# Altium footprint library Seeed-OPL-Switch.PCBLIB: 31 footprints (part 2 of 2)
Each footprint in its own frame and in the unit in brackets; x right, y up, seen from the top. Pads: shape width x height; smd on the part's side, far side on the other; paste and mask are expansions set on the pad; w line width, h text height; cw(c..) or ccw(c..) is an arc to the next point about the centre after c.
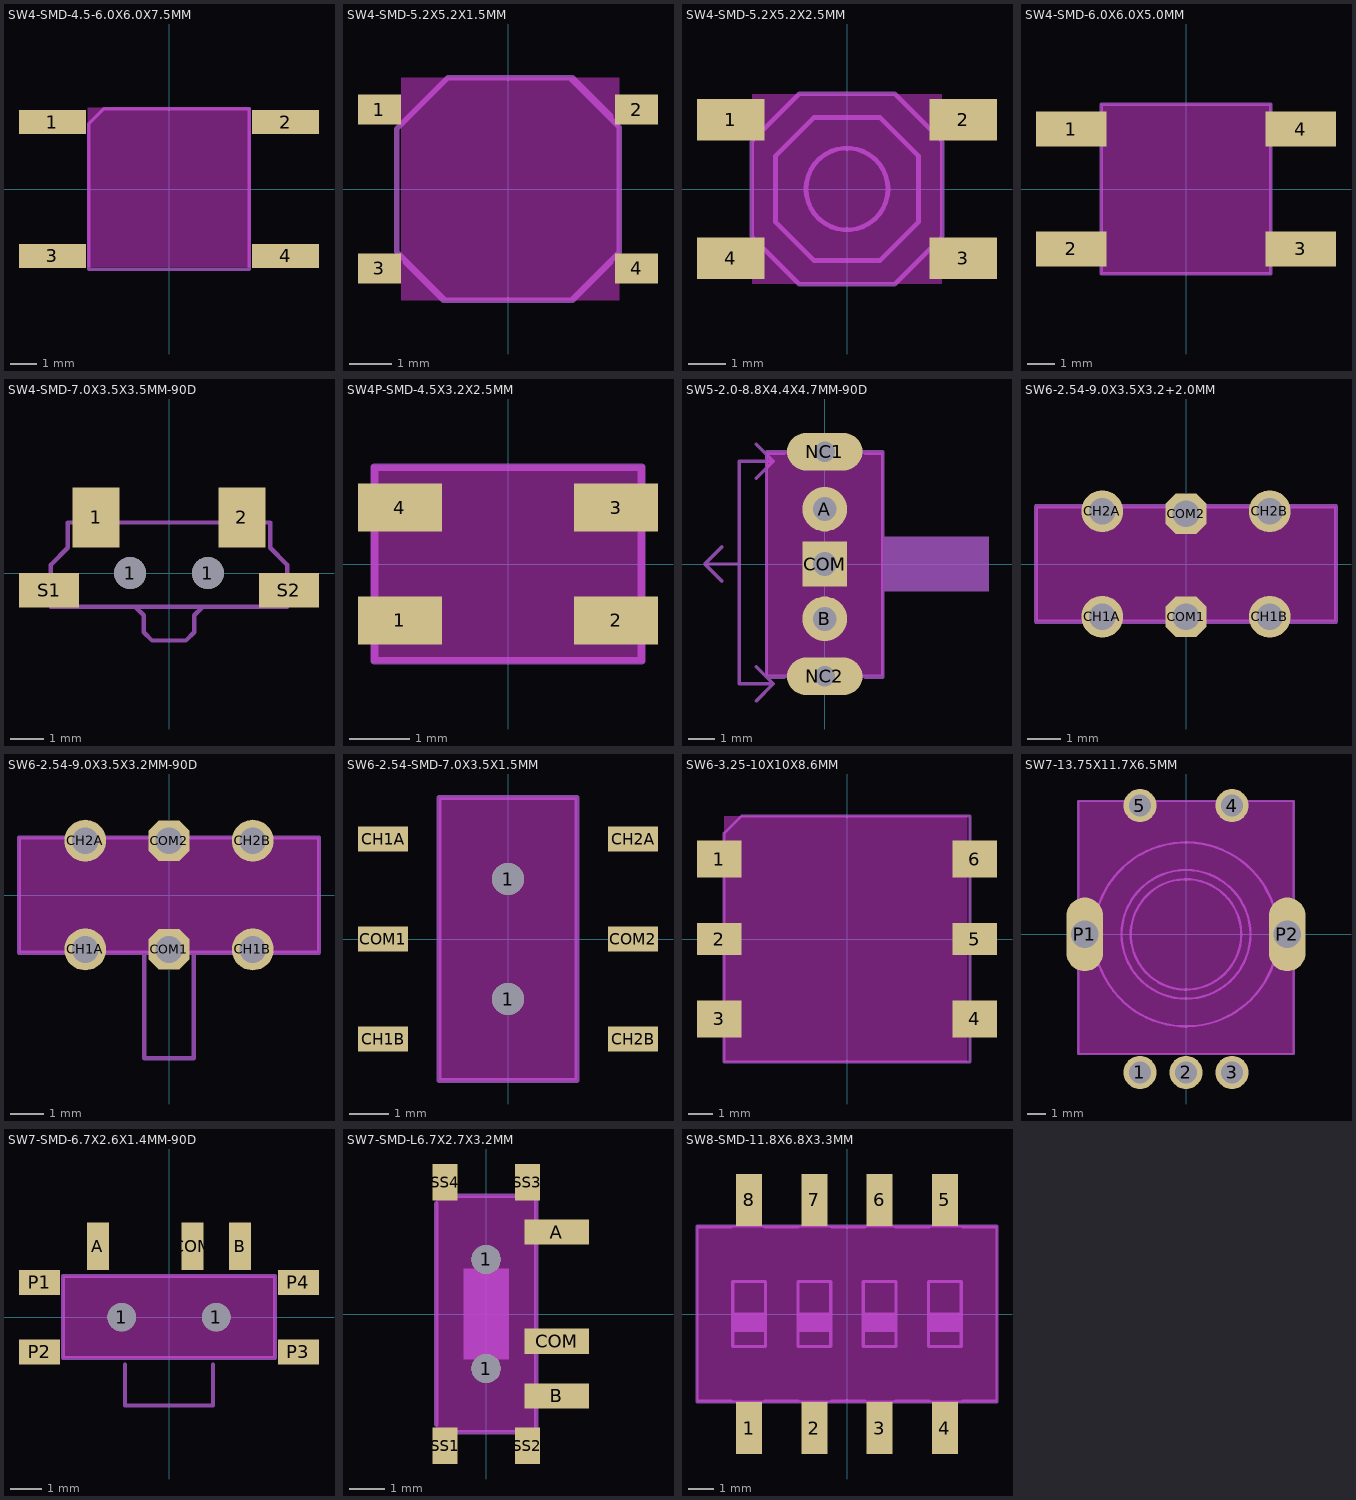
[diagram p1: the footprints below, top view; thin cyan lines are the x and y axes]

## SW4-SMD-4.5-6.0X6.0X7.5MM [mm]
pads (4):
  rect 2.5x0.9 smd: 1(-4.35,2.5) 2(4.35,2.5) 3(-4.35,-2.5) 4(4.35,-2.5)
Keep-Out Layer:
  rectangle: -3.048,-2.921 3.048,3.048
Mechanical 2:
  lines w0.127: -3,-3 -3,2.432 -2.432,3 3,3 3,-3 -3,-3

## SW4-SMD-5.2X5.2X1.5MM [mm]
pads (4):
  rect 1x0.7 smd: 1(-3,1.85) 2(3,1.85) 3(-3,-1.85) 4(3,-1.85)
Keep-Out Layer:
  rectangle: -2.5,-2.6 2.6,2.6
Mechanical 2:
  lines w0.127: -2.6,-1.46 -2.6,1.396 ; -2.4,-1.7 -1.5,-2.6 -1.46,-2.6 -1.1,-2.6 1.5,-2.6 2.4,-1.7 ; -2.4,1.6 -1.4,2.6 1.5,2.6 2.4,1.7 ; 2.6,-1.469 2.6,1.434
Mechanical 18:
  lines w0.127: -2.6,-1.46 -1.46,-2.6 ; -2.6,1.396 -1.396,2.6 ; 1.434,2.6 2.6,1.434 ; 1.469,-2.6 2.6,-1.469

## SW4-SMD-5.2X5.2X2.5MM [mil]
pads (4):
  rect 70.87x43.31 smd: 1(-122.05,72.83) 2(122.05,72.83) 3(122.05,-72.83) 4(-122.05,-72.83)
Keep-Out Layer:
  rectangle: -100,-100 100,100
Mechanical 2:
  circle w5: c0,0 r43.01
  lines w5: -100,-50 -50,-100 50,-100 100,-50 100,50 50,100 -50,100 -100,50 -100,-50 ; -75,-35 -35,-75 35,-75 75,-35 75,35 35,75 -35,75 -75,35 -75,-35

## SW4-SMD-6.0X6.0X5.0MM [mil]
pads (4):
  rect 100x50 smd: 1(-162.56,85) 2(-162.56,-85) 3(162.56,-85) 4(162.56,85)
Keep-Out Layer:
  rectangle: -120,-120 120,120
Mechanical 2:
  lines w5: -120,-120 120,-120 120,120 -120,120 -120,-120

## SW4-SMD-7.0X3.5X3.5MM-90D [mil]
pads (6):
  rect 55x70 smd: 1(-85,65) 2(85,65)
  round 37.4 hole 37.4: 1(-45.28,0) 1(45.28,0)
  rect 70x40 smd: S1(-140,-20) S2(140,-20)
Mechanical 2:
  lines w5: -137.8,3.94 -137.8,7.87 ; -137.8,9.84 -118.11,29.53 -118.11,59.06 ; -98.43,-39.37 -39.37,-39.37 ; -51.18,59.06 51.18,59.06 ; 98.43,-39.37 39.37,-39.37 ; 118.11,59.06 118.11,29.53 137.8,9.84 ; 137.8,3.94 137.8,7.87 ; -39.37,-39.37 39.37,-39.37 ; -39.37,-39.37 -29.53,-49.21 -29.53,-68.9 -19.69,-78.74 19.69,-78.74 29.53,-68.9 29.53,-49.21 39.37,-39.37
Mechanical 18:
  lines w5: -137.8,9.84 -137.8,-39.37 -39.37,-39.37 ; -118.11,59.06 118.11,59.06 ; 39.37,-39.37 137.8,-39.37 137.8,9.84

## SW4P-SMD-4.5X3.2X2.5MM [mil]
pads (4):
  rect 55.12x31.5 smd: 1(-70.87,-37.01) 2(70.87,-37.01) 3(70.87,37.01) 4(-70.87,37.01)
Keep-Out Layer:
  rectangle: -90,-65 90,65
Mechanical 2:
  lines w5: -87.6,-63.39 -87.6,63.39 87.6,63.39 87.6,-63.39 -87.6,-63.39

## SW5-2.0-8.8X4.4X4.7MM-90D [mil]
pads (5):
  round 65 hole 35: A(0,80) B(0,-80)
  rect 65x65 hole 35: COM(0,0)
  oval 110x55 hole 30: NC1(0,164) NC2(0,-164)
Keep-Out Layer:
  rectangle: -85,-163 85,163
Mechanical 2:
  rectangle: 85,-40 240,40
  lines w5: -85.04,-165.35 -59.06,-165.35 ; -85.04,161.42 -59.06,161.42 ; -85,-164 -85,164 ; 59.06,-165.35 85.04,-165.35 ; 59.06,161.42 85.04,161.42 ; 85,-164 85,164
Mechanical 13:
  lines w5: -150,-25 -175,0 ; -150,25 -175,0 ; -100,-200 -75,-175 ; -100,-150 -75,-175 ; -100,125 -75,150 ; -100,175 -75,150 ; -175,0 -125,0 ; -125,0 -125,150 -75,150 ; -125,0 -125,-175 -75,-175
  lines w35: -30,-164 30,-164 ; -30,164 30,164
Mechanical 18:
  lines w5: -85,-164 85,-164 ; -85,164 85,164

## SW6-2.54-9.0X3.5X3.2+2.0MM [mil]
pads (6):
  round 50 hole 32: CH1A(-100,-62.99) CH1B(100,-62.99) CH2A(-100,62.99) CH2B(100,62.99)
  oct 48.41x48.41 hole 32: COM1(0,-62.99) COM2(0,60)
Keep-Out Layer:
  region: 179.13,-68.9 179.13,68.9 -179.13,68.9 -179.13,-68.9
Mechanical 2:
  lines w5: -179.13,-68.9 -179.13,68.9 ; -177.17,-68.9 -129.92,-68.9 ; -177.17,68.9 -129.92,68.9 ; -74.8,-68.9 -27.56,-68.9 ; -70.87,68.9 -31.5,68.9 ; 27.56,-68.9 70.87,-68.9 ; 27.56,68.9 70.87,68.9 ; 129.92,-68.9 177.17,-68.9 ; 129.92,68.9 177.17,68.9 ; 179.13,-68.9 179.13,68.9
Mechanical 18:
  lines w5: -179.13,-68.9 179.13,-68.9 ; -179.13,68.9 179.13,68.9

## SW6-2.54-9.0X3.5X3.2MM-90D [mil]
pads (6):
  round 50 hole 32: CH1A(-100,-64.96) CH1B(100,-64.96) CH2A(-100,64.96) CH2B(100,64.96)
  oct 48.41x48.41 hole 32: COM1(0,-64.96) COM2(0,64.96)
Keep-Out Layer:
  rectangle: -179.13,-68.9 179.13,68.9
Mechanical 2:
  lines w5: -179.13,-68.9 -179.13,68.9 -129.92,68.9 ; -177.17,-68.9 -129.92,-68.9 ; -70.87,-68.9 -27.56,-68.9 ; -70.87,68.9 -31.5,68.9 ; -29.53,-68.9 -29.53,-194.88 29.53,-194.88 29.53,-68.9 ; 27.56,-68.9 74.8,-68.9 ; 27.56,68.9 70.87,68.9 ; 129.92,-68.9 177.17,-68.9 ; 129.92,68.9 177.17,68.9 ; 179.13,-68.9 179.13,68.9
Mechanical 18:
  lines w5: -179.13,-68.9 179.13,-68.9 ; -179.13,68.9 179.13,68.9

## SW6-2.54-SMD-7.0X3.5X1.5MM [mil]
pads (8):
  round 32 hole 32: 1(0,-60) 1(0,60)
  rect 50x25 smd: CH1A(-125,100) CH1B(-125,-100) CH2A(125,100) CH2B(125,-100) COM1(-125,0) COM2(125,0)
Keep-Out Layer:
  rectangle: -68.9,-141.73 68.9,141.73
Mechanical 2:
  lines w5: -68.9,-141.73 68.9,-141.73 68.9,141.73 -68.9,141.73 -68.9,-141.73

## SW6-3.25-10X10X8.6MM [mil]
pads (6):
  rect 70.87x59.06 smd: 1(-204.72,127.95) 3(-204.72,-127.95) 4(204.72,-127.95) 6(204.72,127.95)
  rect 70.87x51.18 smd: 2(-204.72,0) 5(204.72,0)
Keep-Out Layer:
  rectangle: -196.85,-196.85 192.91,196.85
Mechanical 2:
  lines w5: -196.85,-161.42 -196.85,-196.85 196.85,-196.85 196.85,-165.35 ; -196.85,-90.55 -196.85,-31.5 ; -196.85,31.5 -196.85,94.49 ; -196.85,161.42 -196.85,169.29 ; -196.85,169.01 -169.01,196.85 196.85,196.85 196.85,161.42 ; 196.85,-90.55 196.85,-31.5 ; 196.85,31.5 196.85,90.55
Mechanical 18:
  lines w5: -196.85,-196.85 -196.85,169.01 ; 196.85,-196.85 196.85,196.85

## SW7-13.75X11.7X6.5MM [mm]
pads (7):
  round 1.8 hole 1.2: 1(-2.5,-7.5) 2(0,-7.5) 3(2.5,-7.5) 4(2.5,7) 5(-2.5,7)
  oval 2x4 hole 1.5: P1(-5.5,0) P2(5.5,0)
Keep-Out Layer:
  rectangle: -5.85,-6.5 5.85,7.25
Mechanical 2:
  circle w0.127: c0,0 r3.5
  circle w0.127: c0,0 r5
  circle w0.127: c0,0 r3
  lines w0.127: -5.85,-6.5 5.85,-6.5 5.85,7.25 -5.85,7.25 -5.85,-6.5
Mechanical 13:
  lines w1.5: -5.5,-0.7 -5.5,0.7 ; 5.5,-0.7 5.5,0.7

## SW7-SMD-6.7X2.6X1.4MM-90D [mil]
pads (9):
  round 35.43 hole 35.43: 1(-59.06,0) 1(59.06,0)
  rect 27.56x59.06 smd: A(-88.58,88.58) B(88.58,88.58) COM(29.53,88.58)
  rect 51.18x31.5 smd: P1(-161.42,43.31) P2(-161.42,-43.31) P3(161.42,-43.31) P4(161.42,43.31)
Keep-Out Layer:
  rectangle: -131.89,-51.18 131.89,51.18
Mechanical 2:
  lines w5: -131.89,-51.18 -131.89,51.18 131.89,51.18 131.89,-51.18 -131.89,-51.18
Mechanical 18:
  lines w5: -55.12,-59.06 -55.12,-110.24 55.12,-110.24 55.12,-59.06

## SW7-SMD-L6.7X2.7X3.2MM [mil]
pads (9):
  round 32 hole 32: 1(0,-60) 1(0,60)
  rect 70.87x27.56 smd: A(77.87,90) B(77.87,-90) COM(77.87,-30)
  rect 27.56x40 smd: SS1(-45.28,-145) SS2(45.28,-145) SS3(45.28,145) SS4(-45.28,145)
Keep-Out Layer:
  rectangle: -55,-130 55,130
Mechanical 2:
  rectangle: -25,-50 25,50
  lines w5: -55,-122.05 -55,122.05 ; -27.56,-129.92 23.62,-129.92 ; -27.56,129.92 27.56,129.92 ; 55.12,-122.05 55.12,-106.3 ; 55.12,-70.87 55.12,-47.24 ; 55.12,-7.87 55.12,70.87 ; 55.12,106.3 55.12,122.05
Mechanical 18:
  lines w5: -55,-130 55,-130 55,130 -55,130

## SW8-SMD-11.8X6.8X3.3MM [mil]
pads (8):
  rect 40x80 smd: 1(-150,-175) 2(-50,-175) 3(50,-175) 4(150,-175) 5(150,175) 6(50,175) 7(-50,175) 8(-150,175)
Keep-Out Layer:
  rectangle: -230,-135 230,135
Mechanical 2:
  rectangle: -175,-25 -125,0
  rectangle: -75,-25 -25,0
  rectangle: 25,-25 75,0
  rectangle: 125,-25 175,0
  lines w5: -230,-135 -230,135 ; -228.35,-133.86 -177.17,-133.86 ; -228.35,133.86 -177.17,133.86 ; -125.98,-133.86 -74.8,-133.86 ; -125.98,133.86 -74.8,133.86 ; -23.62,-133.86 27.56,-133.86 ; -23.62,133.86 27.56,133.86 ; 74.8,-133.86 125.98,-133.86 ; 74.8,133.86 125.98,133.86 ; 177.17,-133.86 228.35,-133.86 ; 177.17,133.86 228.35,133.86 ; 230,-135 230,135 ; -175,-25 -175,-50 -125,-50 -125,-25 ; -175,-25 -125,-25 ; -175,-25 -175,0 ; -175,0 -175,50 -125,50 -125,0 ; -175,0 -125,0 ; -125,-25 -125,0 ; -75,-25 -75,-50 -25,-50 -25,-25 ; -75,-25 -25,-25 ; -75,-25 -75,0 ; -75,0 -75,50 -25,50 -25,0 ; -75,0 -25,0 ; -25,-25 -25,0 ; 25,-25 25,-50 75,-50 75,-25 ; 25,-25 75,-25 ; 25,-25 25,0 ; 25,0 25,50 75,50 75,0 ; 25,0 75,0 ; 75,-25 75,0 ; 125,-25 125,-50 175,-50 175,-25 ; 125,-25 175,-25 ; 125,-25 125,0 ; 125,0 125,50 175,50 175,0 ; 125,0 175,0 ; 175,-25 175,0
Mechanical 18:
  lines w5: -230,-135 230,-135 ; -230,135 230,135